# Altium schematic symbol library PIF_LCD1602_I2C.SchLib: 1 symbol
Pins are listed as number, name and electrical type; pins without a type are passive.

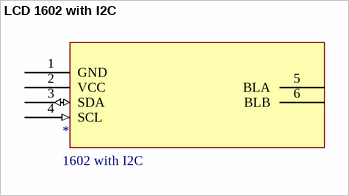
[diagram p0: symbol LCD 1602 with I2C]

## LCD 1602 with I2C
designator *, comment 1602 with I2C
footprint PCBComponent_1
pins: 1 GND (power), 2 VCC (power), 3 SDA (io), 4 SCL (in), 5 BLA (power), 6 BLB (power)